# Altium footprint library C10.PcbLib: 3 footprints
Each footprint in its own frame and in the unit in brackets; x right, y up, seen from the top. Pads: shape width x height; smd on the part's side, far side on the other; paste and mask are expansions set on the pad; w line width, h text height; cw(c..) or ccw(c..) is an arc to the next point about the centre after c.
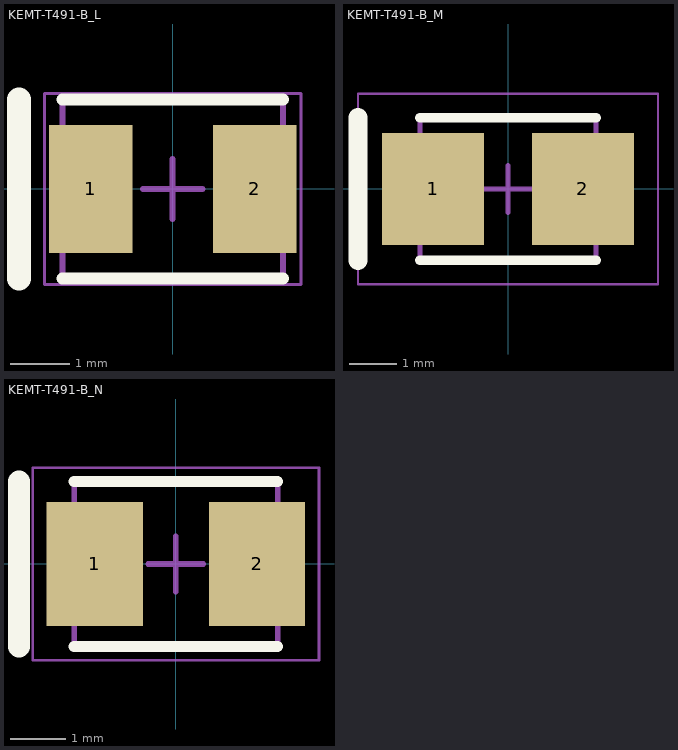
[diagram p0: the footprints below, top view; thin cyan lines are the x and y axes]

## KEMT-T491-B_L [mm] "Molded Capacitor, 2-Leads, Body 3.70x3.00mm, IPC High Density"
height 2.1
pads (2):
  rect 1.4x2.15 smd: 1(-1.375,0) 2(1.375,0)
Top Overlay:
  lines w0.2: -1.85,-1.5 1.85,-1.5 ; -1.85,1.5 1.85,1.5
  lines w0.4: -2.575,-1.5 -2.575,1.5
Mechanical 13:
  lines w0.1: -1.85,-1.5 1.85,-1.5 1.85,1.5 -1.85,1.5 -1.85,-1.5
Mechanical 15:
  lines w0.05: -2.15,-1.6 2.15,-1.6 2.15,1.6 -2.15,1.6 -2.15,-1.6
  lines w0.1: -0.5,0 0.5,0 ; 0,-0.5 0,0.5
3D body "CAPMP3528X21L.step": height 2.1, standoff 0, extent -2.07,-1.5 2.07,1.5

## KEMT-T491-B_M [mm] "Molded Capacitor, 2-Leads, Body 3.70x3.00mm, IPC Low Density"
height 2.1
pads (2):
  rect 2.15x2.35 smd: 1(-1.575,0) 2(1.575,0)
Top Overlay:
  lines w0.2: -1.85,-1.5 1.85,-1.5 ; -1.85,1.5 1.85,1.5
  lines w0.4: -3.15,-1.5 -3.15,1.5
Mechanical 13:
  lines w0.1: -1.85,-1.5 -1.85,1.5 1.85,1.5 1.85,-1.5 -1.85,-1.5
Mechanical 15:
  lines w0.05: -3.15,-2 -3.15,2 3.15,2 3.15,-2 -3.15,-2
  lines w0.1: -0.5,0 0.5,0 ; 0,-0.5 0,0.5
3D body "CAPMP3528X21M.step": height 2.1, standoff 0, extent -2.07,-1.5 2.07,1.5

## KEMT-T491-B_N [mm] "Molded Capacitor, 2-Leads, Body 3.70x3.00mm, IPC Medium Density"
height 2.1
pads (2):
  rect 1.75x2.25 smd: 1(-1.475,0) 2(1.475,0)
Top Overlay:
  lines w0.2: -1.85,-1.5 1.85,-1.5 ; -1.85,1.5 1.85,1.5
  lines w0.4: -2.85,-1.5 -2.85,1.5
Mechanical 13:
  lines w0.1: -1.85,-1.5 -1.85,1.5 1.85,1.5 1.85,-1.5 -1.85,-1.5
Mechanical 15:
  lines w0.05: -2.6,-1.75 -2.6,1.75 2.6,1.75 2.6,-1.75 -2.6,-1.75
  lines w0.1: -0.5,0 0.5,0 ; 0,-0.5 0,0.5
3D body "CAPMP3528X21N.step": height 2.1, standoff 0, extent -2.07,-1.5 2.07,1.5